# EAGLE library part H-BRIDGE (library zetex)
BRIDGE
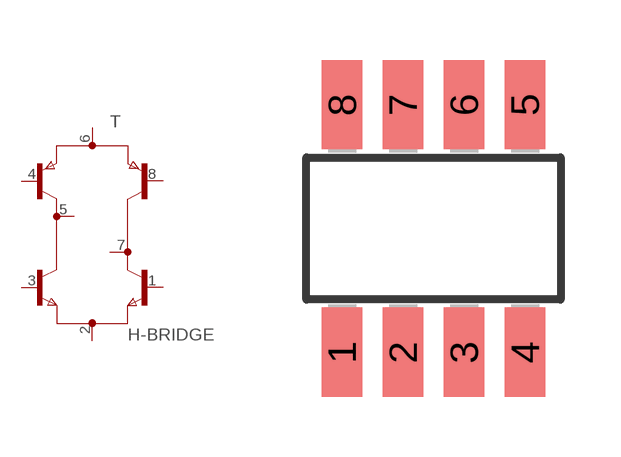
[diagram p0: symbol with the pads of SM8; footprint SM8]

Designator prefix T

## H-BRIDGE (OC_FARNELL: unknown; OC_NEWARK: unknown)  [SM8]
1  B3  pas
2  E2E3  pas
3  B2  pas
4  B1  pas
5  C1C2  pas
6  E1E4  pas
7  C3C4  pas
8  B4  pas

## Footprint SM8 (pad centres in mm)
SM8 Package
smd 1.016 x 2.235: 1 -2.286,-3.099; 2 -0.762,-3.099; 3 0.762,-3.099; 4 2.286,-3.099; 5 2.286,3.099; 6 0.762,3.099; 7 -0.762,3.099; 8 -2.286,3.099